# Altium footprint library WARSHIP.PcbLib: 49 footprints (part 1 of 4)
Each footprint in its own frame and in the unit in brackets; x right, y up, seen from the top. Pads: shape width x height; smd on the part's side, far side on the other; paste and mask are expansions set on the pad; w line width, h text height; cw(c..) or ccw(c..) is an arc to the next point about the centre after c.
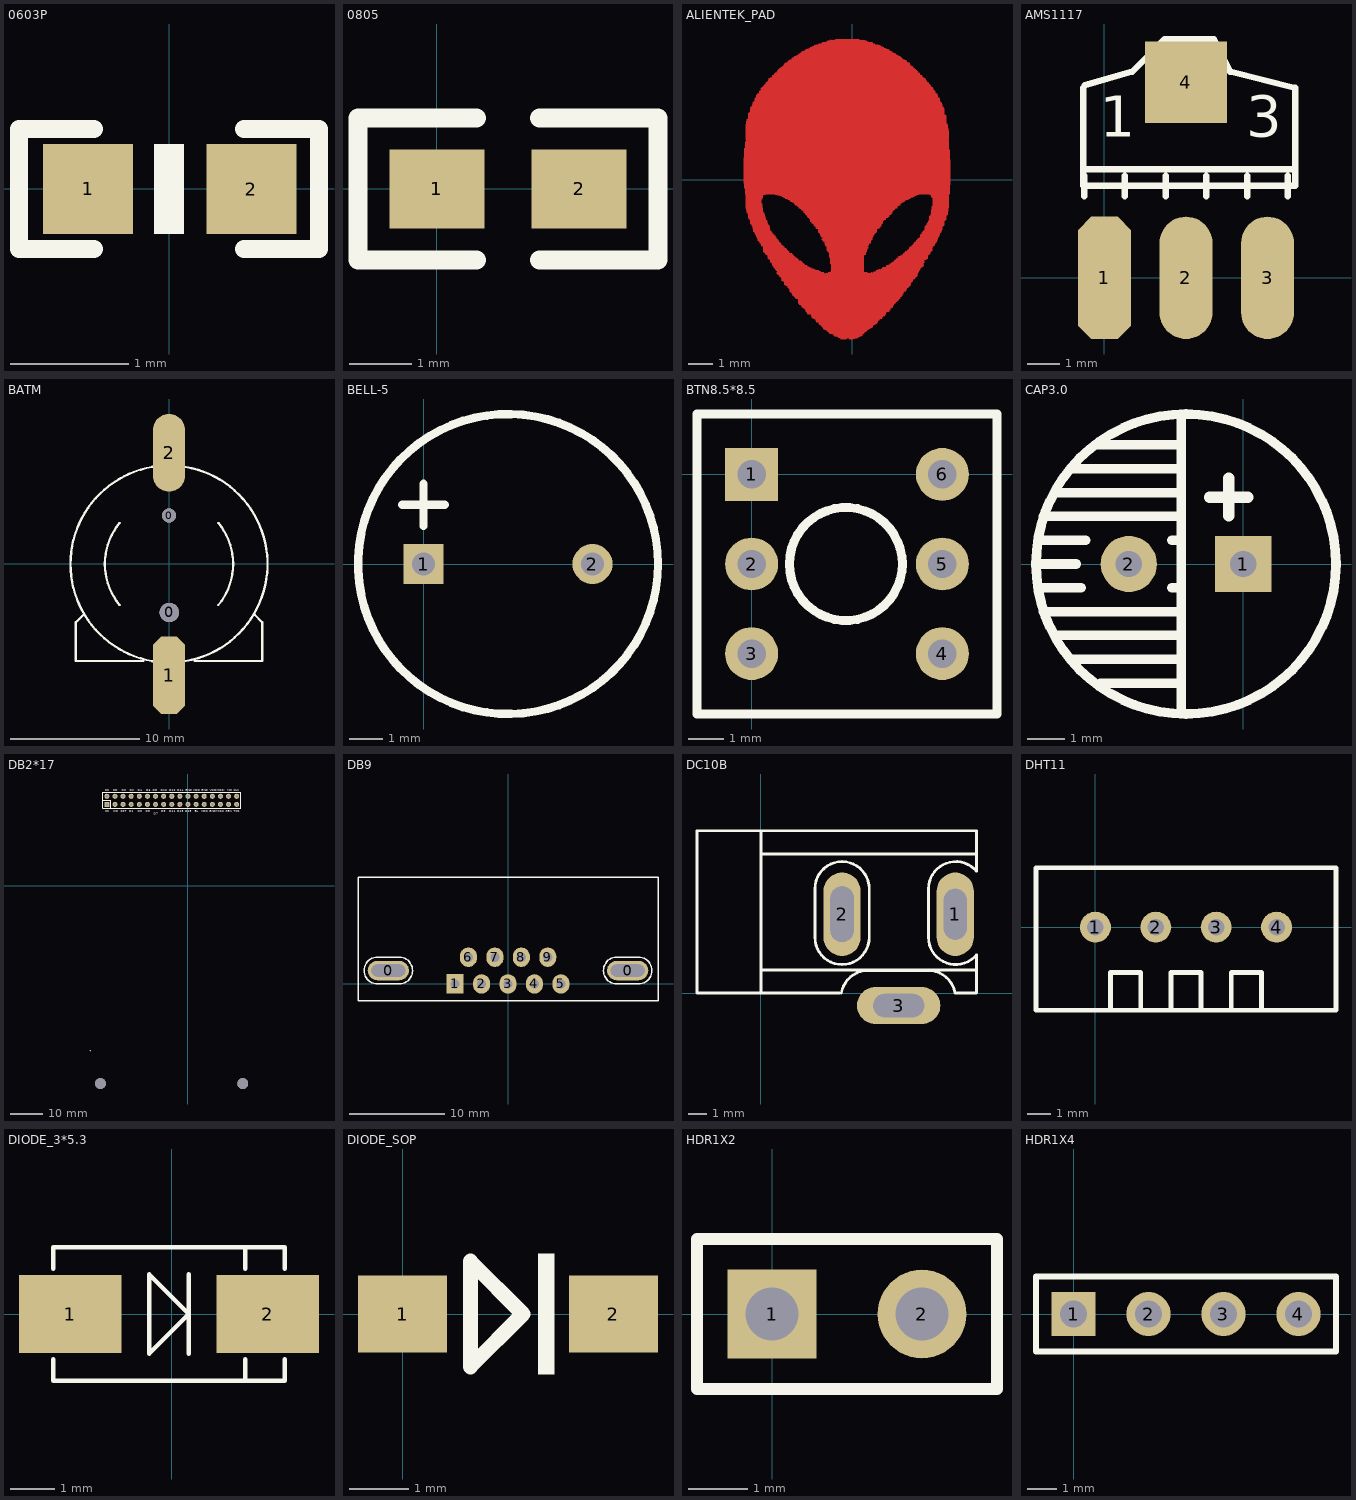
[diagram p0: the footprints below, top view; thin cyan lines are the x and y axes]

## 0603P [mil]
pads (2):
  rect 30x30 smd: 1(-27,0) 2(27.5,-0.06)
Top Overlay:
  region: 5,-15.06 5,14.94 -5,14.94 -5,-15.06
  lines w6: -25,-20.06 -50,-20.06 -50,19.94 -25,19.94 ; 25,-20.06 50,-20.06 50,19.94 25,19.94

## 0805 [mil]
pads (2):
  rect 60x50 smd: 1(0,-0.06) 2(90,-0.06)
Top Overlay:
  lines w12: 25,-45.06 -50,-45.06 -50,44.94 25,44.94 ; 65,-45.06 140,-45.06 140,44.94 65,44.94

## ALIENTEK_PAD [mm]
Top Layer:
  lines w0.026: -4.387,-0.121 3.967,-0.121 ; -4.387,-0.095 3.967,-0.095 ; -4.387,-0.069 3.967,-0.069 ; -4.387,-0.042 3.967,-0.042 ; -4.387,-0.016 3.967,-0.016 ; -4.387,0.01 3.967,0.01 ; -4.387,0.036 3.967,0.036 ; -4.387,0.062 3.967,0.062 ; -4.387,0.088 3.967,0.088 ; -4.387,0.115 3.967,0.115 ; -4.387,0.141 3.967,0.141 ; -4.387,0.167 3.967,0.167 ; -4.387,0.193 3.967,0.193 ; -4.387,0.219 3.967,0.219 ; -4.387,0.245 3.967,0.245 ; -4.387,0.272 3.967,0.272 ; -4.387,0.298 3.967,0.298 ; -4.387,0.324 3.967,0.324 ; -4.387,0.35 3.967,0.35 ; -4.387,0.376 3.967,0.376 ; -4.387,0.402 3.967,0.402 ; -4.387,0.428 3.967,0.428 ; -4.387,0.455 3.967,0.455 ; -4.387,0.481 3.967,0.481 ; -4.387,0.507 3.967,0.507 ; -4.387,0.533 3.967,0.533 ; -4.387,0.559 3.967,0.559 ; -4.387,0.585 3.967,0.585 ; -4.387,0.612 3.967,0.612 ; -4.387,0.638 3.967,0.638 ; -4.387,0.664 3.967,0.664 ; -4.387,0.69 3.967,0.69 ; -4.387,0.716 3.967,0.716 ; -4.387,0.742 3.967,0.742 ; -4.387,0.769 3.967,0.769 ; -4.387,0.795 3.967,0.795 ; -4.387,0.821 3.941,0.821 ; -4.387,0.847 3.941,0.847 ; -4.387,0.873 3.941,0.873 ; -4.361,-0.33 3.941,-0.33 ; -4.361,-0.304 3.941,-0.304 ; -4.361,-0.278 3.941,-0.278 ; -4.361,-0.252 3.941,-0.252 ; -4.361,-0.226 3.941,-0.226 ; -4.361,-0.199 3.967,-0.199 ; -4.361,-0.173 3.967,-0.173 ; -4.361,-0.147 3.967,-0.147 ; -4.361,0.899 3.941,0.899 ; -4.361,0.926 3.941,0.926 ; -4.361,0.952 3.941,0.952 ; -4.361,0.978 3.941,0.978 ; -4.361,1.004 3.941,1.004 ; -4.361,1.03 3.941,1.03 ; -4.361,1.056 3.941,1.056 ; -4.361,1.083 3.941,1.083 ; -4.361,1.109 3.941,1.109 ; -4.361,1.135 3.941,1.135 ; -4.361,1.161 3.941,1.161 ; -4.361,1.187 3.941,1.187 ; -4.361,1.213 3.941,1.213 ; -4.361,1.24 3.915,1.24 ; -4.361,1.266 3.915,1.266 ; -4.335,-0.566 3.941,-0.566 ; -4.335,-0.539 3.941,-0.539 ; -4.335,-0.513 3.941,-0.513 ; -4.335,-0.487 3.941,-0.487 ; -4.335,-0.461 3.941,-0.461 ; -4.335,-0.435 3.941,-0.435 ; -4.335,-0.409 3.941,-0.409 ; -4.335,-0.383 3.941,-0.383 ; -4.335,-0.356 3.941,-0.356 ; -4.335,1.292 3.915,1.292 ; -4.335,1.318 3.915,1.318 ; -4.335,1.344 3.915,1.344 ; -4.335,1.37 3.915,1.37 ; -4.335,1.396 3.915,1.396 ; -4.335,1.423 3.915,1.423 ; -4.335,1.449 3.915,1.449 ; -4.335,1.475 3.915,1.475 ; -4.335,1.501 3.915,1.501 ; -4.335,1.527 3.915,1.527 ; -4.309,-1.141 -3.62,-1.141 ; -4.309,-1.115 -3.646,-1.115 ; -4.309,-1.089 -3.646,-1.089 ; -4.309,-1.063 -3.646,-1.063 ; -4.309,-1.037 -3.646,-1.037 ; -4.309,-1.01 -3.646,-1.01 ; -4.309,-0.984 -3.646,-0.984 ; -4.309,-0.958 -3.672,-0.958 ; -4.309,-0.932 -3.672,-0.932 ; -4.309,-0.906 -3.672,-0.906 ; -4.309,-0.88 -3.672,-0.88 ; -4.309,-0.853 -3.672,-0.853 ; -4.309,-0.827 -3.672,-0.827 ; -4.309,-0.801 -3.672,-0.801 ; -4.309,-0.775 -3.646,-0.775 ; -4.309,-0.749 -3.646,-0.749 ; -4.309,-0.723 -3.62,-0.723 ; -4.309,-0.696 -3.62,-0.696 ; -4.309,-0.67 -3.62,-0.67 ; -4.309,-0.644 -3.62,-0.644 ; -4.309,-0.618 -3.594,-0.618 ; -4.309,-0.592 -3.515,-0.592 ; -4.309,1.553 3.915,1.553 ; -4.309,1.632 3.915,1.632 ; -4.309,1.658 3.915,1.658 ; -4.309,1.684 3.915,1.684 ; -4.309,1.71 3.915,1.71 ; -4.309,1.737 3.915,1.737 ; -4.309,1.763 3.915,1.763 ; -4.309,1.789 3.915,1.789 ; -4.309,1.815 3.915,1.815 ; -4.309,1.841 3.915,1.841 ; -4.309,1.867 3.915,1.867 ; -4.309,1.894 3.915,1.894 ; -4.309,1.92 3.915,1.92 ; -4.309,1.946 3.915,1.946 ; -4.309,1.972 3.915,1.972 ; -4.309,1.998 3.888,1.998 ; -4.309,2.024 3.888,2.024 ; -4.309,2.051 3.888,2.051 ; -4.309,2.077 3.888,2.077 ; -4.309,2.103 3.862,2.103 ; -4.309,2.129 3.862,2.129 ; -4.309,2.155 3.862,2.155 ; -4.309,2.181 3.862,2.181 ; -4.309,2.208 3.862,2.208 ; -4.309,2.234 3.836,2.234 ; -4.283,-1.22 -3.62,-1.22 ; -4.283,-1.194 -3.62,-1.194 ; -4.283,-1.167 -3.62,-1.167 ; -4.283,1.58 3.888,1.58 ; -4.283,1.606 3.915,1.606 ; -4.283,2.26 3.836,2.26 ; -4.283,2.286 3.81,2.286 ; -4.283,2.312 3.81,2.312 ; -4.283,2.338 3.81,2.338 ; -4.283,2.364 3.81,2.364 ; -4.257,-1.324 -3.594,-1.324 ; -4.257,-1.298 -3.594,-1.298 ; -4.257,-1.272 -3.62,-1.272 ; -4.257,-1.246 -3.62,-1.246 ; -4.257,2.391 3.81,2.391 ; -4.257,2.417 3.81,2.417 ; -4.257,2.443 3.81,2.443 ; -4.23,-1.377 -3.568,-1.377 ; -4.23,-1.351 -3.568,-1.351 ; -4.23,2.469 3.81,2.469 ; -4.204,-1.534 -3.515,-1.534 ; -4.204,-1.507 -3.515,-1.507 ; -4.204,-1.481 -3.515,-1.481 ; -4.204,-1.455 -3.542,-1.455 ; -4.204,-1.429 -3.542,-1.429 ; -4.204,-1.403 -3.568,-1.403 ; -4.204,2.495 3.81,2.495 ; -4.204,2.521 3.81,2.521 ; -4.204,2.548 3.81,2.548 ; -4.204,2.574 3.81,2.574 ; -4.204,2.6 3.784,2.6 ; -4.204,2.626 3.758,2.626 ; -4.204,2.652 3.732,2.652 ; -4.204,2.678 3.732,2.678 ; -4.178,-1.586 -3.489,-1.586 ; -4.178,-1.56 -3.489,-1.56 ; -4.178,2.705 3.732,2.705 ; -4.152,-1.612 -3.489,-1.612 ; -4.152,2.731 3.732,2.731 ; -4.126,-1.769 -3.411,-1.769 ; -4.126,-1.743 -3.437,-1.743 ; -4.126,-1.717 -3.437,-1.717 ; -4.126,-1.691 -3.437,-1.691 ; -4.126,-1.664 -3.437,-1.664 ; -4.126,-1.638 -3.463,-1.638 ; -4.126,2.757 3.732,2.757 ; -4.126,2.783 3.732,2.783 ; -4.126,2.809 3.732,2.809 ; -4.126,2.835 3.732,2.835 ; -4.126,2.862 3.732,2.862 ; -4.126,2.888 3.705,2.888 ; -4.126,2.914 3.705,2.914 ; -4.1,-1.795 -3.411,-1.795 ; -4.1,2.94 3.679,2.94 ; -4.073,-1.848 -3.358,-1.848 ; -4.073,-1.821 -3.385,-1.821 ; -4.073,2.966 3.653,2.966 ; -4.047,-1.874 -3.358,-1.874 ; -4.047,2.992 3.653,2.992 ; -4.047,3.019 3.653,3.019 ; -4.021,-1.978 -3.332,-1.978 ; -4.021,-1.952 -3.358,-1.952 ; -4.021,-1.926 -3.332,-1.926 ; -4.021,-1.9 -3.332,-1.9 ; -4.021,3.045 3.653,3.045 ; -4.021,3.071 3.627,3.071 ; -4.021,3.097 3.627,3.097 ; -4.021,3.123 3.601,3.123 ; -3.995,-2.083 -3.28,-2.083 ; -3.995,-2.057 -3.306,-2.057 ; -3.995,-2.031 -3.306,-2.031 ; -3.995,-2.005 -3.332,-2.005 ; -3.995,3.149 3.575,3.149 ; -3.969,-2.109 -3.254,-2.109 ; -3.969,3.176 3.548,3.176 ; -3.943,-2.162 -3.228,-2.162 ; -3.943,-2.135 -3.254,-2.135 ; -3.943,3.202 3.548,3.202 ; -3.943,3.228 3.548,3.228 ; -3.943,3.254 3.548,3.254 ; -3.943,3.28 3.548,3.28 ; -3.917,-2.214 -3.201,-2.214 ; -3.917,-2.188 -3.201,-2.188 ; -3.917,3.306 3.522,3.306 ; -3.89,-2.292 -3.123,-2.292 ; -3.89,-2.266 -3.123,-2.266 ; -3.89,-2.24 -3.149,-2.24 ; -3.89,3.332 3.47,3.332 ; -3.89,3.359 3.47,3.359 ; -3.89,3.385 3.47,3.385 ; -3.89,3.411 3.47,3.411 ; -3.864,-2.319 -3.097,-2.319 ; -3.864,3.437 3.444,3.437 ; -3.838,-2.371 -3.071,-2.371 ; -3.838,-2.345 -3.071,-2.345 ; -3.838,3.463 3.444,3.463 ; -3.812,-2.449 -2.992,-2.449 ; -3.812,-2.423 -3.018,-2.423 ; -3.812,-2.397 -3.044,-2.397 ; -3.786,-2.475 -2.966,-2.475 ; -3.786,3.489 3.391,3.489 ; -3.76,-2.502 -2.966,-2.502 ; -3.76,3.516 3.365,3.516 ; -3.76,3.542 3.365,3.542 ; -3.76,3.568 3.365,3.568 ; -3.733,-2.554 -2.914,-2.554 ; -3.733,-2.528 -2.94,-2.528 ; -3.733,3.594 3.339,3.594 ; -3.707,-2.606 -2.861,-2.606 ; -3.707,-2.58 -2.887,-2.58 ; -3.707,3.62 3.313,3.62 ; -3.707,3.673 3.287,3.673 ; -3.707,3.699 3.287,3.699 ; -3.681,-2.659 -2.835,-2.659 ; -3.681,-2.632 -2.861,-2.632 ; -3.681,3.646 3.287,3.646 ; -3.655,-2.685 -2.783,-2.685 ; -3.655,3.725 3.261,3.725 ; -3.629,3.751 3.208,3.751 ; -3.603,-2.894 -2.574,-2.894 ; -3.603,-2.868 -2.6,-2.868 ; -3.603,-2.842 -2.652,-2.842 ; -3.603,-2.816 -2.652,-2.816 ; -3.603,-2.789 -2.678,-2.789 ; -3.603,-2.763 -2.73,-2.763 ; -3.603,-2.737 -2.757,-2.737 ; -3.603,-2.711 -2.757,-2.711 ; -3.603,3.777 3.208,3.777 ; -3.576,-2.92 -2.547,-2.92 ; -3.576,3.803 3.182,3.803 ; -3.55,-2.946 -2.547,-2.946 ; -3.55,3.83 3.156,3.83 ; -3.524,-2.973 -2.443,-2.973 ; -3.524,3.856 3.13,3.856 ; -3.498,-3.025 -2.417,-3.025 ; -3.498,-2.999 -2.417,-2.999 ; -3.498,3.882 3.104,3.882 ; -3.498,3.908 3.104,3.908 ; -3.472,3.934 3.077,3.934 ; -3.446,-3.051 -2.39,-3.051 ; -3.446,3.96 3.025,3.96 ; -3.419,-3.156 -2.26,-3.156 ; -3.419,-3.13 -2.312,-3.13 ; -3.419,-3.103 -2.338,-3.103 ; -3.419,-3.077 -2.364,-3.077 ; -3.419,3.987 3.025,3.987 ; -3.393,-3.182 -2.233,-3.182 ; -3.393,4.013 2.999,4.013 ; -3.393,4.039 2.973,4.039 ; -3.367,-3.208 -2.207,-3.208 ; -3.367,4.065 2.973,4.065 ; -3.367,4.091 2.947,4.091 ; -3.341,-3.234 -2.181,-3.234 ; -3.315,-3.313 -2.05,-3.313 ; -3.315,-3.287 -2.076,-3.287 ; -3.315,-3.26 -2.155,-3.26 ; -3.315,4.117 2.894,4.117 ; -3.289,-3.339 -2.024,-3.339 ; -3.262,-3.365 -1.998,-3.365 ; -3.262,4.144 2.868,4.144 ; -3.236,-3.443 -1.919,-3.443 ; -3.236,-3.417 -1.946,-3.417 ; -3.236,-3.391 -1.972,-3.391 ; -3.236,4.17 2.842,4.17 ; -3.236,4.196 2.842,4.196 ; -3.236,4.222 2.816,4.222 ; -3.21,-3.496 -1.815,-3.496 ; -3.21,-3.47 -1.841,-3.47 ; -3.184,-3.548 -1.71,-3.548 ; -3.184,-3.522 -1.763,-3.522 ; -3.184,4.248 2.764,4.248 ; -3.158,-3.574 -1.658,-3.574 ; -3.158,4.274 2.737,4.274 ; -3.132,4.3 2.737,4.3 ; -3.106,-3.627 -1.527,-3.627 ; -3.106,-3.6 -1.553,-3.6 ; -3.106,-0.592 2.685,-0.592 ; -3.106,4.327 2.711,4.327 ; -3.079,-3.679 -1.344,-3.679 ; -3.079,-3.653 -1.475,-3.653 ; -3.053,-3.784 -1.135,-3.784 ; -3.053,-3.757 -1.161,-3.757 ; -3.053,4.353 2.659,4.353 ; -3.027,-3.81 2.659,-3.81 ; -3.027,-3.731 -1.265,-3.731 ; -3.027,-3.705 -1.292,-3.705 ; -3.027,-0.618 2.607,-0.618 ; -3.027,4.379 2.659,4.379 ; -3.027,4.405 2.633,4.405 ; -3.001,-3.836 2.633,-3.836 ; -3.001,4.431 2.607,4.431 ; -3.001,4.457 2.58,4.457 ; -2.975,-3.862 2.633,-3.862 ; -2.949,-3.888 2.633,-3.888 ; -2.949,4.484 2.528,4.484 ; -2.922,-3.914 2.607,-3.914 ; -2.922,-0.644 2.58,-0.644 ; -2.922,4.51 2.502,4.51 ; -2.896,-3.941 2.58,-3.941 ; -2.896,4.536 2.476,4.536 ; -2.87,-4.045 2.45,-4.045 ; -2.87,-3.967 2.554,-3.967 ; -2.844,-4.071 2.45,-4.071 ; -2.844,-4.019 2.502,-4.019 ; -2.844,-3.993 2.528,-3.993 ; -2.844,-0.67 2.502,-0.67 ; -2.844,4.562 2.476,4.562 ; -2.818,-4.098 2.45,-4.098 ; -2.818,4.588 2.423,4.588 ; -2.792,-0.696 2.476,-0.696 ; -2.792,4.614 2.397,4.614 ; -2.765,-4.124 2.423,-4.124 ; -2.765,-0.723 2.397,-0.723 ; -2.765,4.641 2.345,4.641 ; -2.739,-4.228 2.371,-4.228 ; -2.739,-4.202 2.371,-4.202 ; -2.739,-4.176 2.371,-4.176 ; -2.739,-4.15 2.397,-4.15 ; -2.739,4.667 2.319,4.667 ; -2.739,4.693 2.319,4.693 ; -2.713,-4.255 2.345,-4.255 ; -2.713,-0.749 2.345,-0.749 ; -2.713,4.719 2.319,4.719 ; -2.687,-4.281 2.345,-4.281 ; -2.635,-4.307 2.319,-4.307 ; -2.635,-0.775 2.293,-0.775 ; -2.635,4.745 2.24,4.745 ; -2.608,-4.359 2.24,-4.359 ; -2.608,-4.333 2.293,-4.333 ; -2.608,4.771 2.214,4.771 ; -2.582,-4.385 2.214,-4.385 ; -2.582,-0.801 2.24,-0.801 ; -2.582,4.798 2.214,4.798 ; -2.556,-4.411 2.214,-4.411 ; -2.556,-0.827 2.188,-0.827 ; -2.556,4.824 2.162,4.824 ; -2.53,-4.516 2.109,-4.516 ; -2.53,-4.49 2.162,-4.49 ; -2.53,-4.464 2.188,-4.464 ; -2.53,-4.438 2.188,-4.438 ; -2.53,4.85 2.136,4.85 ; -2.504,-4.542 2.083,-4.542 ; -2.504,-0.853 2.136,-0.853 ; -2.478,-0.88 2.109,-0.88 ; -2.451,-4.595 2.057,-4.595 ; -2.451,-4.568 2.057,-4.568 ; -2.451,4.876 2.057,4.876 ; -2.451,4.902 2.031,4.902 ; -2.425,-4.647 2.031,-4.647 ; -2.425,-4.621 2.057,-4.621 ; -2.425,-0.906 2.057,-0.906 ; -2.425,4.928 2.005,4.928 ; -2.399,-4.673 2.031,-4.673 ; -2.373,-4.699 2.005,-4.699 ; -2.373,-0.932 2.005,-0.932 ; -2.373,4.955 -0.254,4.955 1.979,4.955 ; -2.347,-4.725 1.979,-4.725 ; -2.347,-0.958 1.952,-0.958 ; -2.347,4.981 -0.254,4.981 1.952,4.981 ; -2.321,-4.752 1.952,-4.752 ; -2.321,-0.984 1.952,-0.984 ; -2.294,-4.778 1.952,-4.778 ; -2.294,-1.01 1.952,-1.01 ; -2.268,-4.804 1.926,-4.804 ; -2.268,5.007 -0.254,5.007 1.874,5.007 ; -2.242,-1.037 1.874,-1.037 ; -2.242,5.033 -0.254,5.033 1.848,5.033 ; -2.216,-1.063 1.848,-1.063 ; -2.19,-4.987 1.743,-4.987 ; -2.19,-4.961 1.769,-4.961 ; -2.19,-4.935 1.796,-4.935 ; -2.19,-4.909 1.822,-4.909 ; -2.19,-4.856 1.874,-4.856 ; -2.19,-4.83 1.874,-4.83 ; -2.19,-1.089 1.822,-1.089 ; -2.19,5.059 -0.254,5.059 1.796,5.059 ; -2.164,-5.013 1.717,-5.013 ; -2.164,-4.882 1.848,-4.882 ; -2.164,-1.141 1.822,-1.141 ; -2.164,-1.115 1.822,-1.115 ; -2.164,5.085 -0.254,5.085 1.769,5.085 ; -2.138,-5.039 1.691,-5.039 ; -2.111,-1.167 1.743,-1.167 ; -2.111,5.111 -0.254,5.111 1.717,5.111 ; -2.085,-5.066 1.691,-5.066 ; -2.085,5.138 -0.254,5.138 1.665,5.138 ; -2.059,-5.092 1.665,-5.092 ; -2.059,-1.194 1.717,-1.194 ; -2.059,5.164 -0.254,5.164 -0.178,5.164 1.612,5.164 ; -2.033,-5.144 1.639,-5.144 ; -2.033,-5.118 1.639,-5.118 ; -2.033,-1.22 1.691,-1.22 ; -2.007,-5.17 1.612,-5.17 ; -2.007,-1.246 1.665,-1.246 ; -2.007,5.19 -0.254,5.19 -0.178,5.19 1.586,5.19 ; -1.981,-5.196 1.586,-5.196 ; -1.981,-1.272 1.639,-1.272 ; -1.954,-1.324 1.612,-1.324 ; -1.954,-1.298 1.612,-1.298 ; -1.954,5.216 -0.254,5.216 -0.178,5.216 1.534,5.216 ; -1.928,-5.222 1.534,-5.222 ; -1.928,-1.351 1.612,-1.351 ; -1.902,-5.249 1.508,-5.249 ; -1.902,-1.377 1.586,-1.377 ; -1.902,5.242 -0.254,5.242 -0.178,5.242 1.508,5.242 ; -1.876,-5.327 1.482,-5.327 ; -1.876,-5.301 1.508,-5.301 ; -1.876,-5.275 1.534,-5.275 ; -1.876,-1.403 1.56,-1.403 ; -1.85,-5.353 1.403,-5.353 ; -1.85,-1.429 1.508,-1.429 ; -1.85,5.268 -0.254,5.268 -0.178,5.268 1.455,5.268 ; -1.824,-5.406 1.351,-5.406 ; -1.824,-5.379 1.351,-5.379 ; -1.824,-1.481 1.482,-1.481 ; -1.824,-1.455 1.508,-1.455 ; -1.797,-5.432 1.351,-5.432 ; -1.797,-1.507 1.455,-1.507 ; -1.797,5.295 -0.254,5.295 -0.178,5.295 1.377,5.295 ; -1.771,-1.534 1.429,-1.534 ; -1.745,-1.56 1.351,-1.56 ; -1.745,5.321 -0.254,5.321 -0.178,5.321 1.351,5.321 ; -1.719,-1.586 1.351,-1.586 ; -1.693,-1.691 1.246,-1.691 ; -1.693,-1.664 1.246,-1.664 ; -1.693,-1.638 1.272,-1.638 ; -1.693,-1.612 1.351,-1.612 ; -1.693,5.347 -0.254,5.347 -0.178,5.347 1.272,5.347 ; -1.667,-5.484 1.325,-5.484 ; -1.667,-5.458 1.351,-5.458 ; -1.667,-1.717 1.246,-1.717 ; -1.64,-5.563 1.22,-5.563 ; -1.64,-5.536 1.246,-5.536 ; -1.64,-5.51 1.298,-5.51 ; -1.64,-1.743 1.246,-1.743 ; -1.64,5.373 -0.254,5.373 -0.178,5.373 1.246,5.373 ; -1.614,-5.589 1.22,-5.589 ; -1.588,-1.769 1.22,-1.769 ; -1.588,5.399 -0.254,5.399 -0.178,5.399 1.168,5.399 ; -1.562,-5.615 1.194,-5.615 ; -1.562,-1.821 1.168,-1.821 ; -1.562,-1.795 1.194,-1.795 ; -1.536,-1.874 1.168,-1.874 ; -1.536,-1.848 1.168,-1.848 ; -1.536,5.425 -0.254,5.425 -0.178,5.425 1.141,5.425 ; -1.51,-5.641 1.115,-5.641 ; -1.483,-5.693 1.063,-5.693 ; -1.483,-5.667 1.089,-5.667 ; -1.483,-1.952 1.089,-1.952 ; -1.483,-1.926 1.115,-1.926 ; -1.483,-1.9 1.141,-1.9 ; -1.483,5.452 -0.254,5.452 -0.178,5.452 1.063,5.452 ; -1.457,-5.746 1.037,-5.746 ; -1.457,-5.72 1.037,-5.72 ; -1.457,-1.978 1.063,-1.978 ; -1.379,-2.109 0.985,-2.109 ; -1.379,-2.083 0.985,-2.083 ; -1.379,-2.057 0.985,-2.057 ; -1.379,-2.031 0.985,-2.031 ; -1.379,-2.005 0.985,-2.005 ; -1.379,5.478 -0.254,5.478 -0.178,5.478 0.906,5.478 ; -1.353,-5.824 0.985,-5.824 ; -1.353,-5.798 0.985,-5.798 ; -1.353,-5.772 1.011,-5.772 ; -1.353,-2.135 0.958,-2.135 ; -1.353,5.504 -0.254,5.504 -0.178,5.504 0.906,5.504 ; -1.326,-5.85 0.932,-5.85 ; -1.326,-2.162 0.932,-2.162 ; -1.3,-2.24 0.88,-2.24 ; -1.3,-2.214 0.88,-2.214 ; -1.3,-2.188 0.906,-2.188 ; -1.274,-5.877 0.88,-5.877 ; -1.274,-2.266 0.854,-2.266 ; -1.248,-5.903 0.828,-5.903 ; -1.248,-2.292 0.854,-2.292 ; -1.222,-5.929 0.828,-5.929 ; -1.222,-2.423 0.801,-2.423 ; -1.222,-2.397 0.801,-2.397 ; -1.222,-2.319 0.828,-2.319 ; -1.222,5.53 -0.254,5.53 -0.178,5.53 -0.118,5.53 0.828,5.53 ; -1.196,-5.981 0.801,-5.981 ; -1.196,-5.955 0.801,-5.955 ; -1.196,-2.475 0.749,-2.475 ; -1.196,-2.449 0.775,-2.449 ; -1.196,-2.371 0.801,-2.371 ; -1.196,-2.345 0.801,-2.345 ; -1.196,5.556 -0.254,5.556 -0.178,5.556 -0.118,5.556 0.801,5.556 ; -1.17,-6.007 0.723,-6.007 ; -1.143,-6.034 0.671,-6.034 ; -1.143,-2.502 0.749,-2.502 ; -1.117,-6.06 0.644,-6.06 ; -1.117,-2.606 0.671,-2.606 ; -1.117,-2.58 0.697,-2.58 ; -1.117,-2.554 0.749,-2.554 ; -1.117,-2.528 0.749,-2.528 ; -1.091,-2.659 0.644,-2.659 ; -1.091,-2.632 0.671,-2.632 ; -1.065,-6.086 0.618,-6.086 ; -1.065,-3.784 2.659,-3.784 ; -1.065,-2.685 0.644,-2.685 ; -1.065,5.582 -0.254,5.582 -0.178,5.582 -0.118,5.582 0.254,5.582 0.644,5.582 ; -1.039,-2.842 0.592,-2.842 ; -1.039,-2.816 0.618,-2.816 ; -1.039,-2.789 0.618,-2.789 ; -1.039,-2.737 0.644,-2.737 ; -1.039,-2.711 0.618,-2.711 ; -1.013,-6.112 0.592,-6.112 ; -1.013,-2.868 0.592,-2.868 ; -1.013,-2.763 0.644,-2.763 ; -1.013,5.609 -0.254,5.609 -0.178,5.609 -0.127,5.609 ; -0.986,-6.138 0.54,-6.138 ; -0.986,-2.894 0.592,-2.894 ; -0.96,-6.164 0.514,-6.164 ; -0.96,-3.757 0.618,-3.757 ; -0.96,-2.92 0.566,-2.92 ; -0.934,-6.19 0.487,-6.19 ; -0.934,-3.103 0.461,-3.103 ; -0.934,-3.077 0.461,-3.077 ; -0.934,-3.051 0.487,-3.051 ; -0.934,-3.025 0.54,-3.025 ; -0.934,-2.999 0.54,-2.999 ; -0.934,-2.973 0.54,-2.973 ; -0.934,-2.946 0.54,-2.946 ; -0.908,-6.217 0.461,-6.217 ; -0.908,-3.156 0.461,-3.156 ; -0.908,-3.13 0.461,-3.13 ; -0.908,5.635 -0.254,5.635 -0.178,5.635 -0.127,5.635 -0.118,5.635 0.254,5.635 0.514,5.635 ; -0.882,-3.731 0.461,-3.731 ; -0.882,-3.391 0.461,-3.391 ; -0.882,-3.365 0.461,-3.365 ; -0.882,-3.339 0.461,-3.339 ; -0.882,-3.313 0.461,-3.313 ; -0.882,-3.287 0.461,-3.287 ; -0.882,-3.26 0.461,-3.26 ; -0.882,-3.234 0.461,-3.234 ; -0.882,-3.208 0.461,-3.208 ; -0.882,-3.182 0.461,-3.182 ; -0.882,5.661 -0.873,5.661 ; -0.856,-3.705 0.461,-3.705 ; -0.856,-3.679 0.461,-3.679 ; -0.856,-3.653 0.461,-3.653 ; -0.856,-3.627 0.461,-3.627 ; -0.856,-3.6 0.461,-3.6 ; -0.856,-3.574 0.461,-3.574 ; -0.856,-3.548 0.461,-3.548 ; -0.856,-3.522 0.461,-3.522 ; -0.856,-3.496 0.461,-3.496 ; -0.856,-3.47 0.461,-3.47 ; -0.856,-3.443 0.461,-3.443 ; -0.856,-3.417 0.461,-3.417 ; -0.777,-6.243 0.435,-6.243 ; -0.751,-6.295 0.409,-6.295 ; -0.751,-6.269 0.409,-6.269 ; -0.725,-6.321 0.357,-6.321 ; -0.699,5.661 -0.254,5.661 -0.178,5.661 -0.127,5.661 -0.118,5.661 0.254,5.661 0.278,5.661 ; -0.672,5.687 -0.508,5.687 -0.254,5.687 -0.178,5.687 -0.127,5.687 -0.118,5.687 0.254,5.687 0.278,5.687 ; -0.62,-6.347 0.304,-6.347 ; -0.568,-6.374 0.252,-6.374 ; -0.489,-6.4 0.2,-6.4 ; -0.463,-6.452 -0.428,-6.452 ; -0.463,-6.426 -0.245,-6.426 ; -0.385,-6.452 -0.245,-6.452 ; -0.123,-6.452 0.017,-6.452 ; -0.123,-6.426 0.095,-6.426 ; -0.118,5.609 0.254,5.609 0.592,5.609 ; 0.766,-3.757 0.801,-3.757 ; 0.845,-3.757 2.659,-3.757 ; 0.871,-3.731 2.685,-3.731 ; 0.95,-3.705 2.685,-3.705 ; 0.976,-3.679 2.711,-3.679 ; 1.028,-3.653 2.737,-3.653 ; 1.08,-3.627 1.115,-3.627 ; 1.159,-3.627 2.764,-3.627 ; 1.185,-3.6 2.764,-3.6 ; 1.211,-3.574 2.764,-3.574 ; 1.237,-3.548 2.79,-3.548 ; 1.368,-3.522 2.842,-3.522 ; 1.368,-3.496 2.868,-3.496 ; 1.394,-3.47 2.894,-3.47 ; 1.473,-3.443 2.894,-3.443 ; 1.525,-3.417 2.868,-3.417 ; 1.577,-3.391 2.868,-3.391 ; 1.604,-3.365 2.894,-3.365 ; 1.604,-3.339 2.92,-3.339 ; 1.682,-3.313 2.92,-3.313 ; 1.708,-3.287 2.92,-3.287 ; 1.708,-3.26 2.92,-3.26 ; 1.761,-3.234 2.973,-3.234 ; 1.787,-3.208 3.025,-3.208 ; 1.813,-3.182 3.051,-3.182 ; 1.839,-3.156 3.051,-3.156 ; 1.865,-3.13 3.051,-3.13 ; 1.891,-3.103 3.051,-3.103 ; 1.944,-3.077 3.051,-3.077 ; 1.996,-3.051 3.077,-3.051 ; 2.075,-3.025 3.104,-3.025 ; 2.075,-2.999 3.13,-2.999 ; 2.075,-2.973 3.156,-2.973 ; 2.127,-2.946 3.156,-2.946 ; 2.153,-2.92 3.156,-2.92 ; 2.153,-2.894 3.208,-2.894 ; 2.232,-2.868 3.234,-2.868 ; 2.258,-2.842 3.234,-2.842 ; 2.284,-2.816 3.234,-2.816 ; 2.31,-2.789 3.234,-2.789 ; 2.31,-2.763 3.234,-2.763 ; 2.336,-2.737 3.234,-2.737 ; 2.336,-2.711 3.261,-2.711 ; 2.415,-2.685 3.287,-2.685 ; 2.415,-2.659 3.313,-2.659 ; 2.441,-2.632 3.339,-2.632 ; 2.467,-2.606 3.339,-2.606 ; 2.519,-2.58 3.365,-2.58 ; 2.519,-2.554 3.365,-2.554 ; 2.519,-2.528 3.391,-2.528 ; 2.572,-2.502 3.418,-2.502 ; 2.598,-2.475 3.418,-2.475 ; 2.598,-2.449 3.444,-2.449 ; 2.624,-2.423 3.444,-2.423 ; 2.65,-2.397 3.47,-2.397 ; 2.676,-2.371 3.47,-2.371 ; 2.729,-2.345 3.47,-2.345 ; 2.755,-2.319 3.496,-2.319 ; 2.755,-2.292 3.496,-2.292 ; 2.755,-2.266 3.522,-2.266 ; 2.755,-2.24 3.522,-2.24 ; 2.781,-2.214 3.548,-2.214 ; 2.807,-2.188 3.548,-2.188 ; 2.807,-2.162 3.548,-2.162 ; 2.833,-2.135 3.575,-2.135 ; 2.859,-2.109 3.601,-2.109 ; 2.859,-2.083 3.601,-2.083 ; 2.886,-2.057 3.627,-2.057 ; 2.938,-2.031 3.627,-2.031 ; 2.938,-2.005 3.653,-2.005 ; 2.938,-1.978 3.653,-1.978 ; 2.938,-1.952 3.653,-1.952 ; 2.938,-1.926 3.653,-1.926 ; 2.938,-1.9 3.653,-1.9 ; 2.964,-1.874 3.679,-1.874 ; 2.99,-1.848 3.705,-1.848 ; 3.016,-1.821 3.732,-1.821 ; 3.016,-1.795 3.732,-1.795 ; 3.043,-1.769 3.732,-1.769 ; 3.043,-1.743 3.732,-1.743 ; 3.069,-1.717 3.732,-1.717 ; 3.069,-1.691 3.732,-1.691 ; 3.095,-1.664 3.732,-1.664 ; 3.095,-1.638 3.758,-1.638 ; 3.121,-1.612 3.81,-1.612 ; 3.121,-1.586 3.81,-1.586 ; 3.121,-1.56 3.81,-1.56 ; 3.121,-1.534 3.81,-1.534 ; 3.121,-1.507 3.81,-1.507 ; 3.121,-1.481 3.81,-1.481 ; 3.147,-1.455 3.81,-1.455 ; 3.147,-0.592 3.915,-0.592 ; 3.173,-1.429 3.836,-1.429 ; 3.173,-1.403 3.862,-1.403 ; 3.173,-0.618 3.915,-0.618 ; 3.2,-1.377 3.862,-1.377 ; 3.2,-1.351 3.862,-1.351 ; 3.2,-1.298 3.862,-1.298 ; 3.2,-1.272 3.888,-1.272 ; 3.2,-1.246 3.888,-1.246 ; 3.2,-1.22 3.888,-1.22 ; 3.2,-0.67 3.915,-0.67 ; 3.2,-0.644 3.888,-0.644 ; 3.226,-1.324 3.862,-1.324 ; 3.226,-1.194 3.888,-1.194 ; 3.226,-1.167 3.888,-1.167 ; 3.226,-1.141 3.888,-1.141 ; 3.226,-1.115 3.915,-1.115 ; 3.226,-1.089 3.915,-1.089 ; 3.226,-0.723 3.915,-0.723 ; 3.226,-0.696 3.915,-0.696 ; 3.252,-1.063 3.915,-1.063 ; 3.252,-1.037 3.915,-1.037 ; 3.252,-1.01 3.915,-1.01 ; 3.252,-0.984 3.915,-0.984 ; 3.252,-0.958 3.915,-0.958 ; 3.252,-0.932 3.915,-0.932 ; 3.252,-0.906 3.915,-0.906 ; 3.252,-0.88 3.915,-0.88 ; 3.252,-0.853 3.915,-0.853 ; 3.252,-0.827 3.915,-0.827 ; 3.252,-0.801 3.915,-0.801 ; 3.252,-0.775 3.915,-0.775 ; 3.252,-0.749 3.915,-0.749

## AMS1117 [mil]
pads (4):
  oct 65x150 smd: 1(0.03,-0.06)
  oval 65x150 smd: 2(100.03,-0.06) 3(200.03,-0.06)
  rect 100x100 smd: 4(100.03,239.94)
Top Overlay:
  lines w7.87: -25.97,232.94 -25.97,132.94 ; -24.97,99.94 -24.97,124.94 ; -24.3,236.27 34.03,252.94 74.03,292.94 134.03,292.94 154.03,252.94 234.03,232.94 234.03,112.94 ; 25.03,99.94 25.03,124.94 ; 75.03,99.94 75.03,124.94 ; 125.03,99.94 125.03,124.94 ; 175.03,99.94 175.03,124.94 ; 225.03,99.94 225.03,124.94 ; -25.97,132.94 234.03,132.94 234.03,112.94 ; -25.97,132.94 -25.97,112.94 234.03,112.94
  text "3" at 174.03,172.94 h50
  text "1" at -5.97,172.94 h50

## BATM [mm]
pads (4):
  round 1.1 hole 1.1 unplated: 0(0,3.748)
  round 1.5 hole 1.5 unplated: 0(0.025,-3.752)
  oct 2.5x6 smd: 1(0,-8.602)
  oval 2.5x6 smd: 2(0,8.598)
Top Overlay:
  lines w0.178: -6.6,-3.902 -7.2,-4.502 -7.2,-7.502 -2,-7.502 ; -3.815,-3.171 cw(c0,-0.002) -3.812,3.171 ; -0.833,-7.576 cw(c0,-0.002) -7.62,-0.002 cw(c0,-0.002) -0.833,7.573 ; 0.833,-7.576 ccw(c0,-0.002) 0.833,7.573 ; 2,-7.502 7.2,-7.502 7.2,-4.502 6.625,-3.927 ; 3.81,-3.177 ccw(c0,-0.002) 3.812,3.171

## BELL-5 [mm]
pads (2):
  rect 1.2x1.2 hole 0.7: 1(0,0)
  round 1.2 hole 0.7: 2(5.08,0)
Top Overlay:
  circle w0.254: c2.54,0 r4.51
  lines w0.254: -0.635,1.778 0.635,1.778 ; 0,1.143 0,2.413

## BTN8.5*8.5 [mm]
pads (6):
  rect 1.5x1.5 hole 0.8: 1(0,0)
  round 1.5 hole 0.8: 2(0,-2.54) 3(0,-5.08) 4(5.4,-5.08) 5(5.4,-2.54) 6(5.4,0)
Top Overlay:
  circle w0.254: c2.667,-2.54 r1.6
  lines w0.254: -1.55,-6.79 -1.55,1.71 6.95,1.71 6.95,-6.79 -1.55,-6.79

## CAP3.0 [mm]
pads (2):
  rect 1.5x1.5 hole 0.7: 1(0,0)
  round 1.5 hole 0.7: 2(-3.048,0)
Top Overlay:
  circle w0.254: c-1.524,0 r4
  lines w0.254: -5.461,-0.635 -4.318,-0.635 ; -5.461,0 -4.445,0 ; -5.461,0.635 -4.191,0.635 ; -5.334,-1.27 -1.651,-1.27 ; -5.334,1.27 -1.651,1.27 ; -4.953,-1.905 -1.651,-1.905 ; -4.953,1.905 -1.651,1.905 ; -4.572,-2.54 -1.651,-2.54 ; -4.572,2.54 -1.651,2.54 ; -3.937,3.175 -1.651,3.175 ; -3.81,-3.175 -1.651,-3.175 ; -1.905,-0.635 -1.651,-0.635 ; -1.905,0.635 -1.651,0.635 ; -1.651,-3.937 -1.651,3.937
  lines w0.305: -0.897,1.778 0.127,1.778 ; -0.381,1.286 -0.381,2.286

## DB2*17 [mil]
pads (36):
  rect 62x62 hole 35: 1(-1000,1000)
  round 62 hole 35: 2(-1000,1100) 3(-900,1000) 4(-900,1100) 5(-800,1000) 6(-800,1100) 7(-700,1000) 8(-700,1100) 9(-600,1000) 10(-600,1100) 11(-500,1000) 12(-500,1100) 13(-400,1000) 14(-400,1100) 15(-300,1000) 16(-300,1100) 17(-200,1000) 18(-200,1100) 19(-100,1000) 20(-100,1100) 21(0,1000) 22(0,1100) 23(100,1000) 24(100,1100) 25(200,1000) 26(200,1100) 27(300,1000) 28(300,1100) 29(400,1000) 30(400,1100) 31(500,1000) 32(500,1100) 33(600,1000) 34(600,1100)
  round 133.86 hole 133.86: ""(-1080,-2440.94) ""(675,-2440.94)
Top Overlay:
  lines w6: -1050,1050 -950,1050 -950,950 ; -1050,950 650,950 650,1150 -1050,1150 -1050,950
  lines w10: -1210,-2030 -1205,-2035
  text "BL" at 83.66,905.51 h28
  text "MISO" at 349.41,905.51 h28.03
  text "TCS" at 561.02,905.51 h28.03
  text "MO" at 482.28,1161.42 h28.03
  text "MOSI" at 354.33,1161.42 h28.03
  text "CLK" at 561.02,1161.42 h28.03
  text "PEN" at 467.52,905.51 h28.03
  text "D11" at -231.3,905.51 h28
  text "GND" at 260.83,905.51 h28
  text "GND" at -34.45,1161.42 h28
  text "RD" at -920.28,1161.42 h28
  text "D0" at -816.93,1161.42 h28
  text "D10" at -334.65,1161.42 h28
  text "VDD" at 63.98,1161.42 h28
  text "GND" at 162.4,1161.42 h28
  text "VDD" at 265.75,1161.42 h28
  text "VDD" at 162.4,905.51 h28
  text "D15" at -34.45,905.51 h28
  text "D12" at -231.3,1161.42 h28
  text "D13" at -132.87,905.51 h28
  text "D9" at -329.72,905.51 h28
  text "D8" at -433.07,1161.42 h28
  text "D6" at -516.73,1161.42 h28
  text "D5" at -521.65,905.51 h28
  text "D4" at -620.08,1161.42 h28
  text "D3" at -620.08,905.51 h28
  text "D2" at -718.5,1161.42 h28
  text "D1" at -723.43,905.51 h28
  text "RST" at -831.69,905.51 h28
  text "WR" at -920.28,905.51 h28
  text "CS" at -1018.7,905.51 h28
  text "RS" at -1018.7,1161.42 h28
  text "D7" at -420,870 h28
  text "D14" at -132.87,1161.42 h28

## DB9 [mil]
pads (11):
  oval 170x80 hole 50 slot 140 at 0 deg: 0(-493,55) 0(493,55)
  rect 70x80 hole 38: 1(-218,0)
  oval 70x80 hole 38: 2(-109,0) 3(0,0) 4(109,0) 5(218,0) 6(-163,110) 7(-54,110) 8(55,110) 9(164,110)
Top Overlay:
  lines w6: -618,-70 618,-70 618,440 -618,440 -618,-70 ; -538,0 cw(c-538,55) -538,110 -448,110 cw(c-448,55) -448,0 -538,0 ; 448,0 cw(c448,55) 448,110 538,110 cw(c538,55) 538,0 448,0

## DC10B [mil]
pads (3):
  oval 80x180 hole 50 slot 110 at 90 deg: 1(419.09,170)
  oval 80x180 hole 50 slot 120 at 90 deg: 2(175,170)
  oval 180x80 hole 50 slot 110 at 0 deg: 3(297.05,-26.85)
Top Overlay:
  lines w6: 0,50 465,50 ; 0,300 460.13,300 464.25,300 ; 5,350 -15,350 -137.8,350 -137.8,0 0,0 ; 169,0 0,0 ; 173.37,0.16 cw(c231,-10) 231,48.52 361,48.52 cw(c361,-10) 418.63,0.16 ; 420,0 465,0 465,80 ; 464.83,82.38 cw(c420,120) 361.48,120 361.48,225 cw(c420,225) 464.83,262.62 465,350 0,350 0,0 ; 233.52,225 ccw(c175,225) 116.48,225 116.48,120 ccw(c175,120) 233.52,120 233.52,225 ; 233.52,225 233.52,225

## DHT11 [mm]
pads (4):
  round 1.3 hole 0.7: 1(0,0) 2(2.54,0) 3(5.08,0) 4(7.62,0)
Top Overlay:
  lines w0.203: -2.5,-3.5 7.62,-3.5 10.12,-3.5 ; -2.5,-3.46 -2.5,0 -2.5,2.5 7.62,2.5 10.12,2.5 10.12,0 10.12,-3.46 ; 0.635,-3.5 0.635,-1.905 1.905,-1.905 1.905,-3.5 ; 3.175,-3.5 3.175,-1.905 4.445,-1.905 4.445,-3.5 ; 5.715,-3.5 5.715,-1.905 6.985,-1.905 6.985,-3.5

## DIODE_3*5.3 [mm]
pads (2):
  rect 2.3x1.75 smd: 1(-2.286,0) 2(2.159,0)
Top Overlay:
  lines w0.1: -2.667,-1.016 -2.667,-1.5 2.54,-1.5 2.54,-1.016 ; -2.667,1.016 -2.667,1.5 2.54,1.5 2.54,1.016 ; 0.381,-0.889 0.381,0.889 ; 1.651,-1.5 1.651,-1.016 ; 1.651,1.016 1.651,1.5 ; -0.508,-0.889 -0.508,0.889 0.381,0 -0.508,-0.889

## DIODE_SOP [mm]
pads (2):
  rect 1.5x1.3 smd: 1(0,0) 2(3.556,0)
Top Overlay:
  rectangle: 2.286,-1.016 2.559,1.016
  lines w0.254: 1.143,-0.889 2.032,0 1.143,0.889 1.143,-0.889

## HDR1X2 [mm]
pads (2):
  rect 1.5x1.5 hole 0.9: 1(0,0)
  round 1.5 hole 0.9: 2(2.54,0)
Top Overlay:
  lines w0.2: -1.27,-1.27 3.81,-1.27 3.81,1.27 -1.27,1.27 -1.27,-1.27

## HDR1X4 [mm]
pads (4):
  rect 1.5x1.5 hole 0.9: 1(0,0)
  round 1.5 hole 0.9: 2(2.54,0) 3(5.08,0) 4(7.62,0)
Top Overlay:
  lines w0.2: -1.27,-1.27 8.89,-1.27 8.89,1.27 -1.27,1.27 -1.27,-1.27